# Altium schematic symbol library 1N5822RL.SchLib: 1 symbol
Pins are listed as number, name and electrical type; pins without a type are passive.

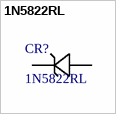
[diagram p0: symbol 1N5822RL]

## 1N5822RL
designator CR?
No Description Available; Mfr_Name: STMicroelectronics; Type: DEV; Copyright: Copyright (C) 2022 Ultra Librarian. All rights reserved.; Manufacturer_Part_Number: 1N5822RL; RefDes: RefDes
footprint DO-201AD_STM
footprint DO-201AD_STM
footprint DO-201AD_STM
pins: 1, 2